# EAGLE library part CSR8645_MODULE (library CSR8645_module)
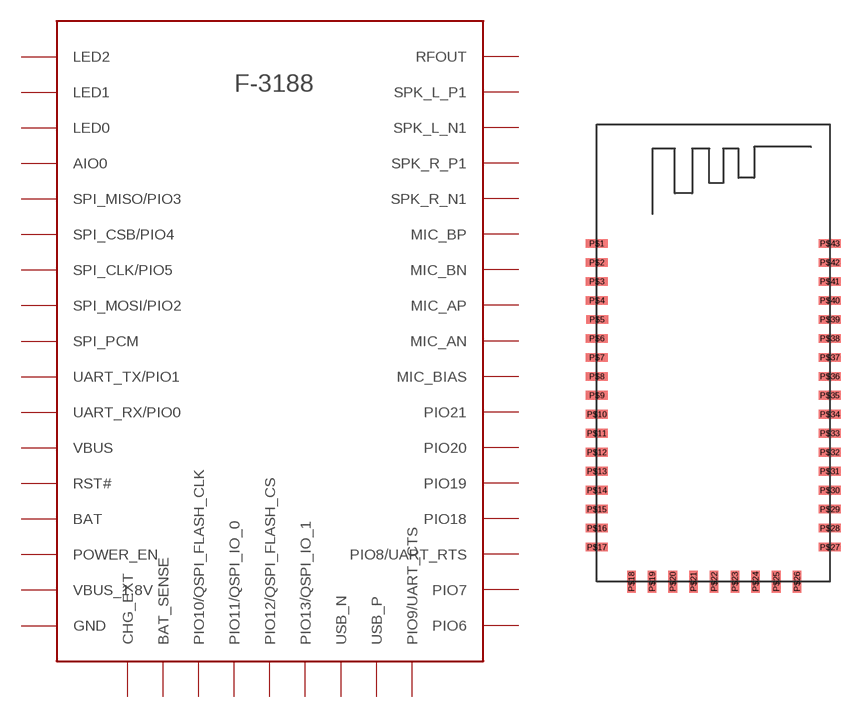
[diagram p0: symbol with the pads of CSR8645_MODULE; footprint CSR8645_MODULE]

Designator prefix -

## CSR8645_MODULE  [CSR8645_MODULE]
P$1  LED2
P$2  LED1
P$3  LED0
P$4  AIO0
P$5  SPI_MISO/PIO3
P$6  SPI_CSB/PIO4
P$7  SPI_CLK/PIO5
P$8  SPI_MOSI/PIO2
P$9  SPI_PCM
P$10  UART_TX/PIO1
P$11  UART_RX/PIO0
P$12  VBUS  pwr
P$13  RST#
P$14  BAT  pwr
P$15  POWER_EN
P$16  VBUS_1.8V  pwr
P$17  GND  pwr
P$18  CHG_EXT
P$19  BAT_SENSE
P$20  PIO10/QSPI_FLASH_CLK
P$21  PIO11/QSPI_IO_0
P$22  PIO12/QSPI_FLASH_CS
P$23  PIO13/QSPI_IO_1
P$24  USB_N
P$25  USB_P
P$26  PIO9/UART_CTS
P$27  PIO6
P$28  PIO7
P$29  PIO8/UART_RTS
P$30  PIO18
P$31  PIO19
P$32  PIO20
P$33  PIO21
P$34  MIC_BIAS
P$35  MIC_AN
P$36  MIC_AP
P$37  MIC_BN
P$38  MIC_BP
P$39  SPK_R_N1
P$40  SPK_R_P1
P$41  SPK_L_N1
P$42  SPK_L_P1
P$43  RFOUT

## Footprint CSR8645_MODULE (pad centres in mm)
smd 1.27 x 0.5: P$1 -6.35,8.17; P$2 -6.35,7.07; P$3 -6.35,5.97; P$4 -6.35,4.87; P$5 -6.335,3.77; P$6 -6.35,2.67; P$7 -6.35,1.57; P$8 -6.35,0.47; P$9 -6.35,-0.63; P$10 -6.35,-1.73; P$11 -6.35,-2.83; P$12 -6.35,-3.93; P$13 -6.35,-5.03; P$14 -6.35,-6.13; P$15 -6.35,-7.23; P$16 -6.35,-8.33; P$17 -6.35,-9.43; P$27 7.15,-9.43; P$28 7.15,-8.33; P$29 7.15,-7.23; P$30 7.15,-6.13; P$31 7.15,-5.03; P$32 7.15,-3.93; P$33 7.15,-2.83; P$34 7.15,-1.73; P$35 7.15,-0.63; P$36 7.15,0.47; P$37 7.15,1.57; P$38 7.15,2.67; P$39 7.15,3.77; P$40 7.15,4.87; P$41 7.15,5.97; P$42 7.15,7.07; P$43 7.15,8.17
smd 0.5 x 1.27: P$18 -4.35,-11.43; P$19 -3.15,-11.43; P$20 -1.95,-11.43; P$21 -0.75,-11.43; P$22 0.45,-11.43; P$23 1.65,-11.43; P$24 2.85,-11.43; P$25 4.05,-11.43; P$26 5.25,-11.43